# EAGLE library part LTC6081 (library HyTechDevices)
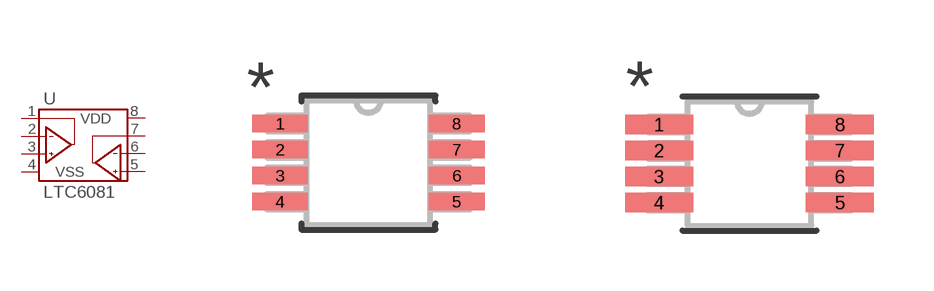
[diagram p113: symbol with the pads of MSOP-8_MS; footprints MSOP-8_MS, MSOP-8_MS-M]

Designator prefix -

## LTC6081  [MSOP-8_MS]
1  VOUTA  pas
2  VINA-  pas
3  VINA+  pas
4  VSS  pas
5  VINB+  pas
6  VINB-  pas
7  VOUTB  pas
8  VDD  pas

## LTC6081-M  [MSOP-8_MS-M]
Pads as for MSOP-8_MS

## LTC6081-L  [MSOP-8_MS-L]
Pads as for MSOP-8_MS

## Footprint MSOP-8_MS (pad centres in mm)
smd 1.397 x 0.432: 1 -2.21,0.975; 2 -2.21,0.325; 3 -2.21,-0.325; 4 -2.21,-0.975; 5 2.21,-0.975; 6 2.21,-0.325; 7 2.21,0.325; 8 2.21,0.975

## Footprint MSOP-8_MS-M (pad centres in mm)
smd 1.702 x 0.483: 1 -2.261,0.975; 2 -2.261,0.325; 3 -2.261,-0.325; 4 -2.261,-0.975; 5 2.261,-0.975; 6 2.261,-0.325; 7 2.261,0.325; 8 2.261,0.975

## Footprint MSOP-8_MS-L (pad centres in mm)
smd 1.092 x 0.381: 1 -2.159,0.975; 2 -2.159,0.325; 3 -2.159,-0.325; 4 -2.159,-0.975; 5 2.159,-0.975; 6 2.159,-0.325; 7 2.159,0.325; 8 2.159,0.975